# Altium schematic symbol library PJ-102A.SchLib: 1 symbol
Pins are listed as number, name and electrical type; pins without a type are passive.

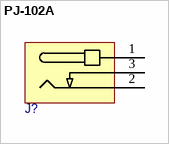
[diagram p0: symbol PJ-102A]

## PJ-102A
designator J?
pins: 1 +, 2 -, 3 NC